# Altium schematic symbol library 7M-16.000MAAJ-T.SchLib: 1 symbol
Pins are listed as number, name and electrical type; pins without a type are passive.

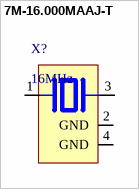
[diagram p0: symbol 7M-16.000MAAJ-T]

## 7M-16.000MAAJ-T
designator X?, comment 16MHz
CRYSTAL 16.0000MHZ 18PF SMD; Manufacturer 1: TXC; Manufacturer Part Number 1: 7M-16.000MAAJ-T; ESR (Equivalent Series Resistance): 60Ω; Frequency Stability: 30ppm; Frequency Tolerance: 0.003%; Supplier 1: DigiKey; Stock 1: 43226; Pricing 1: 1=0.64, 10=0.553, 25=0.5228, 50=0.501, 100=0.4803, 250=0.45424, 500=0.43544, 1000=0.41743 (USD); RoHS: Compliant; Case/Package: SMD/SMT; China RoHS: Compliant; Country of Origin: Mainland China; Depth: 2.5mm; Frequency: 16MHz; Height: 800µm; Introduction Date: 2014-01-27; Length: 3.2mm; Lifecycle Status: Production; Load Capacitance: 18pF; Max Operating Temperature: 70°C; Min Operating Temperature: -20°C; Mounting Technology: Surface Mount; Pins: 4; Packaging: Tape & Reel; REACH SVHC: Unaffected; Schedule B: 8541600080, 8541600080|8541600080|8541600080|8541600080|8541600080; ESR: 60Ω; Termination: SMD/SMT; Tolerance: 0.003%; Width: 2.5mm; ComponentLink1URL: https://datasheet.octopart.com:443/7M-16.000MAAJ-T-TXC-datasheet-175949319.pdf?src-supplier=Newark; ComponentLink1Description: https://datasheet.octopart.com:443/7M-16.000MAAJ-T-TXC-datasheet-175949319.pdf?src-supplier=Newark; ComponentLink2URL: https://datasheet.octopart.com:443/7M-16.000MAAJ-T-TXC-datasheet-142346318.pdf?src-supplier=TME; ComponentLink2Description: https://datasheet.octopart.com:443/7M-16.000MAAJ-T-TXC-datasheet-142346318.pdf?src-supplier=TME; ComponentLink3URL: https://datasheet.octopart.com:443/7M-16.000MAAJ-T-TXC-datasheet-24897103.pdf?src-supplier=element14+APAC; ComponentLink3Description: https://datasheet.octopart.com:443/7M-16.000MAAJ-T-TXC-datasheet-24897103.pdf?src-supplier=element14+APAC; ComponentLink4URL: https://datasheet.octopart.com:443/7M-16.000MAAJ-T-TXC-datasheet-10340792.pdf?src-supplier=Future+Electronics; ComponentLink4Description: https://datasheet.octopart.com:443/7M-16.000MAAJ-T-TXC-datasheet-10340792.pdf?src-supplier=Future+Electronics; ComponentLink5URL: https://datasheet.octopart.com:443/7M-16.000MAAJ-T-TXC-datasheet-8857452.pdf?src-supplier=Farnell; ComponentLink5Description: https://datasheet.octopart.com:443/7M-16.000MAAJ-T-TXC-datasheet-8857452.pdf?src-supplier=Farnell; ComponentLink6URL: https://datasheet.octopart.com:443/7M-16.000MAAJ-T-TXC-datasheet-10545748.pdf?src-supplier=Farnell; ComponentLink6Description: https://datasheet.octopart.com:443/7M-16.000MAAJ-T-TXC-datasheet-10545748.pdf?src-supplier=Farnell; ComponentLink7URL: https://datasheet.octopart.com:443/7M-16.000MAAJ-T-TXC-datasheet-10379982.pdf?src-supplier=Farnell; ComponentLink7Description: https://datasheet.octopart.com:443/7M-16.000MAAJ-T-TXC-datasheet-10379982.pdf?src-supplier=Farnell; Supplier Part Number 1: 887-1125-1-ND
footprint XTAL_7M-16.000MAAJ-T
footprint XTAL_7M-16.000MAAJ-T
pins: 1, 2 GND (power), 3, 4 GND (power)